# Altium footprint library P8208NL.PcbLib: 1 footprints
Each footprint in its own frame and in the unit in brackets; x right, y up, seen from the top. Pads: shape width x height; smd on the part's side, far side on the other; paste and mask are expansions set on the pad; w line width, h text height; cw(c..) or ccw(c..) is an arc to the next point about the centre after c.
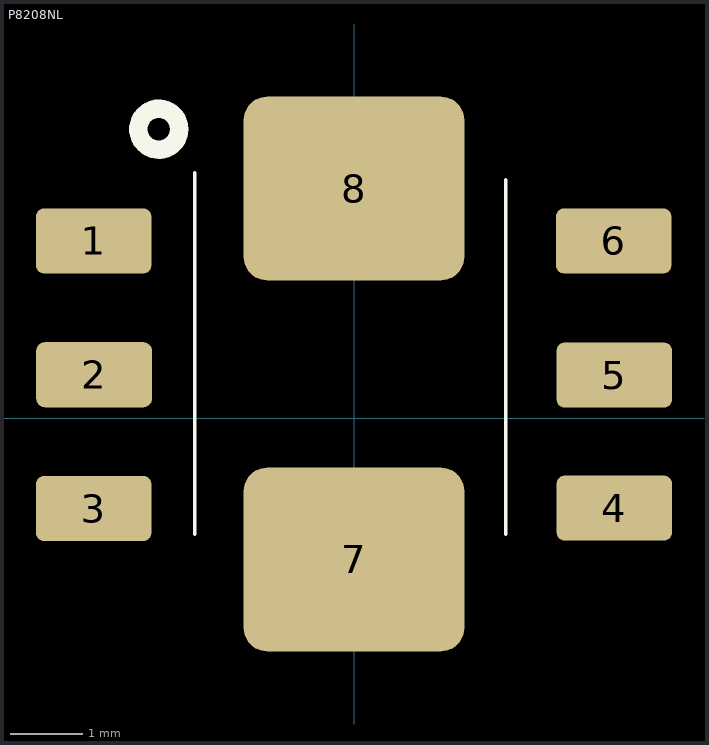
[diagram p0: the footprint, top view; thin cyan lines are the x and y axes]

## P8208NL [mm]
pads (8):
  rrect25% 1.6x0.9 smd: 1(-3.6,2.455) 2(-3.595,0.605) 3(-3.6,-1.245) 4(3.6,-1.24) 5(3.6,0.6) 6(3.59,2.455)
  rrect25% 3.05x2.54 smd: 7(0,-1.95) 8(0,3.18)
Top Overlay:
  circle w0.254: c-2.7,4 r0.283
  lines w0.05: -2.2,-1.6 -2.2,3.4 ; 2.1,-1.6 2.1,3.3
3D body "P8208NLT.step": height 5.2, standoff 0, extent -4.19,-2.2 4.19,3.4